# EAGLE library part DSPIC30F6015 (library geoffculp)
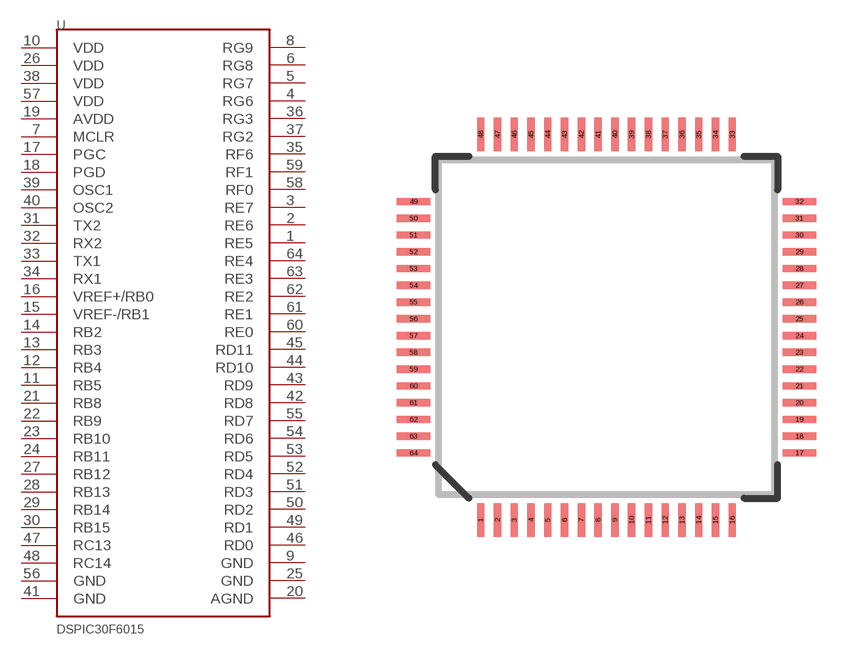
[diagram p266: symbol with the pads of TQFP64; footprint TQFP64]

Designator prefix U

## DSPIC30F6015SMD  [TQFP64]
1  RE5
2  RE6
3  RE7
4  RG6
5  RG7
6  RG8
7  MCLR
8  RG9
9  GND
10  VDD
11  RB5
12  RB4
13  RB3
14  RB2
15  VREF-/RB1
16  VREF+/RB0
17  PGC
18  PGD
19  AVDD
20  AGND
21  RB8
22  RB9
23  RB10
24  RB11
25  GND
26  VDD
27  RB12
28  RB13
29  RB14
30  RB15
31  TX2
32  RX2
33  TX1
34  RX1
35  RF6
36  RG3
37  RG2
38  VDD
39  OSC1
40  OSC2
41  GND
42  RD8
43  RD9
44  RD10
45  RD11
46  RD0
47  RC13
48  RC14
49  RD1
50  RD2
51  RD3
52  RD4
53  RD5
54  RD6
55  RD7
56  GND
57  VDD
58  RF0
59  RF1
60  RE0
61  RE1
62  RE2
63  RE3
64  RE4

## Footprint TQFP64 (pad centres in mm)
64-Lead TQFP Plastic Thin Quad Flatpack - 10x10x1mm Body, 2mmFP
smd 0.22 x 1: 1 -3.75,-5.75; 2 -3.25,-5.75; 3 -2.75,-5.75; 4 -2.25,-5.75; 5 -1.75,-5.75; 6 -1.25,-5.75; 7 -0.75,-5.75; 8 -0.25,-5.75; 9 0.25,-5.75; 10 0.75,-5.75; 11 1.25,-5.75; 12 1.75,-5.75; 13 2.25,-5.75; 14 2.75,-5.75; 15 3.25,-5.75; 16 3.75,-5.75; 33 3.75,5.75; 34 3.25,5.75; 35 2.75,5.75; 36 2.25,5.75; 37 1.75,5.75; 38 1.25,5.75; 39 0.75,5.75; 40 0.25,5.75; 41 -0.25,5.75; 42 -0.75,5.75; 43 -1.25,5.75; 44 -1.75,5.75; 45 -2.25,5.75; 46 -2.75,5.75; 47 -3.25,5.75; 48 -3.75,5.75
smd 1 x 0.22: 17 5.75,-3.75; 18 5.75,-3.25; 19 5.75,-2.75; 20 5.75,-2.25; 21 5.75,-1.75; 22 5.75,-1.25; 23 5.75,-0.75; 24 5.75,-0.25; 25 5.75,0.25; 26 5.75,0.75; 27 5.75,1.25; 28 5.75,1.75; 29 5.75,2.25; 30 5.75,2.75; 31 5.75,3.25; 32 5.75,3.75; 49 -5.75,3.75; 50 -5.75,3.25; 51 -5.75,2.75; 52 -5.75,2.25; 53 -5.75,1.75; 54 -5.75,1.25; 55 -5.75,0.75; 56 -5.75,0.25; 57 -5.75,-0.25; 58 -5.75,-0.75; 59 -5.75,-1.25; 60 -5.75,-1.75; 61 -5.75,-2.25; 62 -5.75,-2.75; 63 -5.75,-3.25; 64 -5.75,-3.75